# EAGLE library part MC13224 (library GW-devices)
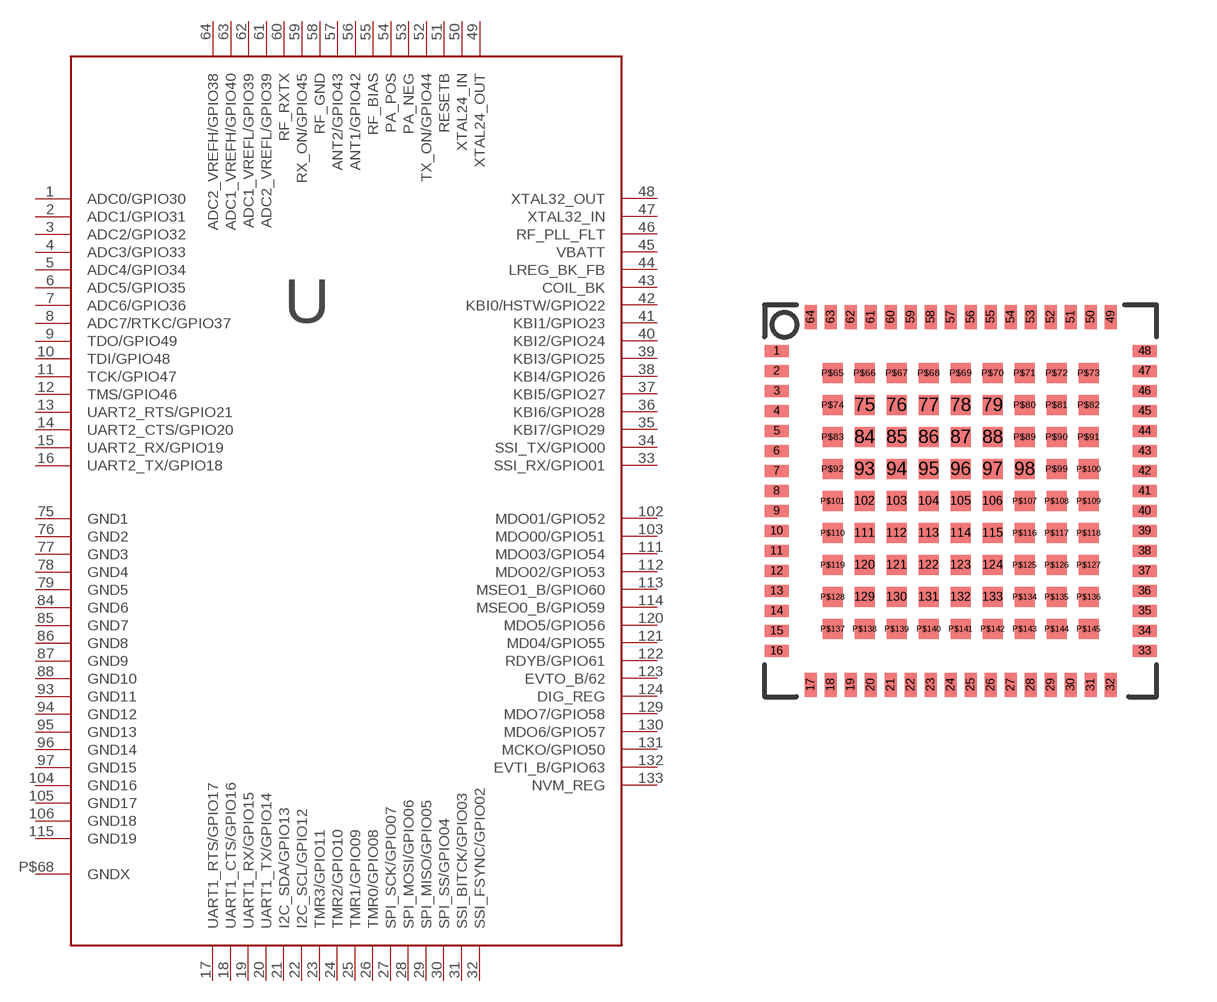
[diagram p23: symbol with the pads of MC13224; footprint MC13224]

Designator prefix -

## MC13224V (MFGN: Freescale; MFGP: MC13224V; PRICE: 4.26)  [MC13224]
1  ADC0/GPIO30
2  ADC1/GPIO31
3  ADC2/GPIO32
4  ADC3/GPIO33
5  ADC4/GPIO34
6  ADC5/GPIO35
7  ADC6/GPIO36
8  ADC7/RTKC/GPIO37
9  TDO/GPIO49
10  TDI/GPIO48
11  TCK/GPIO47
12  TMS/GPIO46
13  UART2_RTS/GPIO21
14  UART2_CTS/GPIO20
15  UART2_RX/GPIO19
16  UART2_TX/GPIO18
17  UART1_RTS/GPIO17
18  UART1_CTS/GPIO16
19  UART1_RX/GPIO15
20  UART1_TX/GPIO14
21  I2C_SDA/GPIO13
22  I2C_SCL/GPIO12
23  TMR3/GPIO11
24  TMR2/GPIO10
25  TMR1/GPIO09
26  TMR0/GPIO08
27  SPI_SCK/GPIO07
28  SPI_MOSI/GPIO06
29  SPI_MISO/GPIO05
30  SPI_SS/GPIO04
31  SSI_BITCK/GPIO03
32  SSI_FSYNC/GPIO02
33  SSI_RX/GPIO01
34  SSI_TX/GPIO00
35  KBI7/GPIO29
36  KBI6/GPIO28
37  KBI5/GPIO27
38  KBI4/GPIO26
39  KBI3/GPIO25
40  KBI2/GPIO24
41  KBI1/GPIO23
42  KBI0/HSTW/GPIO22
43  COIL_BK
44  LREG_BK_FB
45  VBATT
46  RF_PLL_FLT
47  XTAL32_IN
48  XTAL32_OUT
49  XTAL24_OUT
50  XTAL24_IN
51  RESETB
52  TX_ON/GPIO44
53  PA_NEG
54  PA_POS
55  RF_BIAS
56  ANT1/GPIO42
57  ANT2/GPIO43
58  RF_GND
59  RX_ON/GPIO45
60  RF_RXTX
61  ADC2_VREFL/GPIO39
62  ADC1_VREFL/GPIO39
63  ADC1_VREFH/GPIO40
64  ADC2_VREFH/GPIO38
75  GND1
76  GND2
77  GND3
78  GND4
79  GND5
84  GND6
85  GND7
86  GND8
87  GND9
88  GND10
93  GND11
94  GND12
95  GND13
96  GND14
97  GND15
102  MDO01/GPIO52
103  MDO00/GPIO51
104  GND16
105  GND17
106  GND18
111  MDO03/GPIO54
112  MDO02/GPIO53
113  MSEO1_B/GPIO60
114  MSEO0_B/GPIO59
115  GND19
120  MDO5/GPIO56
121  MD04/GPIO55
122  RDYB/GPIO61
123  EVTO_B/62
124  DIG_REG
129  MDO7/GPIO58
130  MDO6/GPIO57
131  MCKO/GPIO50
132  EVTI_B/GPIO63
133  NVM_REG
P$68  GNDX

## Footprint MC13224 (pad centres in mm)
smd 0.6 x 0.3: 1 0.3,8.65; 2 0.3,8.15; 3 0.3,7.65; 4 0.3,7.15; 5 0.3,6.65; 6 0.3,6.15; 7 0.3,5.65; 8 0.3,5.15; 9 0.3,4.65; 10 0.3,4.15; 11 0.3,3.65; 12 0.3,3.15; 13 0.3,2.65; 14 0.3,2.15; 15 0.3,1.65; 16 0.3,1.15; 33 9.5,1.15; 34 9.5,1.65; 35 9.5,2.15; 36 9.5,2.65; 37 9.5,3.15; 38 9.5,3.65; 39 9.5,4.15; 40 9.5,4.65; 41 9.5,5.15; 42 9.5,5.65; 43 9.5,6.15; 44 9.5,6.65; 45 9.5,7.15; 46 9.5,7.65; 47 9.5,8.15; 48 9.5,8.65
smd 0.3 x 0.6: 17 1.15,0.3; 18 1.65,0.3; 19 2.15,0.3; 20 2.65,0.3; 21 3.15,0.3; 22 3.65,0.3; 23 4.15,0.3; 24 4.65,0.3; 25 5.15,0.3; 26 5.65,0.3; 27 6.15,0.3; 28 6.65,0.3; 29 7.15,0.3; 30 7.65,0.3; 31 8.15,0.3; 32 8.65,0.3; 49 8.65,9.5; 50 8.15,9.5; 51 7.65,9.5; 52 7.15,9.5; 53 6.65,9.5; 54 6.15,9.5; 55 5.65,9.5; 56 5.15,9.5; 57 4.65,9.5; 58 4.15,9.5; 59 3.65,9.5; 60 3.15,9.5; 61 2.65,9.5; 62 2.15,9.5; 63 1.65,9.5; 64 1.15,9.5
smd 0.5 x 0.5: 75 2.5,7.3; 76 3.3,7.3; 77 4.1,7.3; 78 4.9,7.3; 79 5.7,7.3; 84 2.5,6.5; 85 3.3,6.5; 86 4.1,6.5; 87 4.9,6.5; 88 5.7,6.5; 93 2.5,5.7; 94 3.3,5.7; 95 4.1,5.7; 96 4.9,5.7; 97 5.7,5.7; 98 6.5,5.7; 102 2.5,4.9; 103 3.3,4.9; 104 4.1,4.9; 105 4.9,4.9; 106 5.7,4.9; 111 2.5,4.1; 112 3.3,4.1; 113 4.1,4.1; 114 4.9,4.1; 115 5.7,4.1; 120 2.5,3.3; 121 3.3,3.3; 122 4.1,3.3; 123 4.9,3.3; 124 5.7,3.3; 129 2.5,2.5; 130 3.3,2.5; 131 4.1,2.5; 132 4.9,2.5; 133 5.7,2.5; P$65 1.7,8.1; P$66 2.5,8.1; P$67 3.3,8.1; P$68 4.1,8.1; P$69 4.9,8.1; P$70 5.7,8.1; P$71 6.5,8.1; P$72 7.3,8.1; P$73 8.1,8.1; P$74 1.7,7.3; P$80 6.5,7.3; P$81 7.3,7.3; P$82 8.1,7.3; P$83 1.7,6.5; P$89 6.5,6.5; P$90 7.3,6.5; P$91 8.1,6.5; P$92 1.7,5.7; P$99 7.3,5.7; P$100 8.1,5.7; P$101 1.7,4.9; P$107 6.5,4.9; P$108 7.3,4.9; P$109 8.1,4.9; P$110 1.7,4.1; P$116 6.5,4.1; P$117 7.3,4.1; P$118 8.1,4.1; P$119 1.7,3.3; P$125 6.5,3.3; P$126 7.3,3.3; P$127 8.1,3.3; P$128 1.7,2.5; P$134 6.5,2.5; P$135 7.3,2.5; P$136 8.1,2.5; P$137 1.7,1.7; P$138 2.5,1.7; P$139 3.3,1.7; P$140 4.1,1.7; P$141 4.9,1.7; P$142 5.7,1.7; P$143 6.5,1.7; P$144 7.3,1.7; P$145 8.1,1.7